# Altium schematic symbol library AO3401A.SchLib: 1 symbol
Pins are listed as number, name and electrical type; pins without a type are passive.

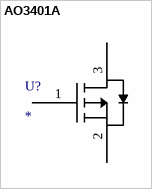
[diagram p0: symbol AO3401A]

## AO3401A
designator U?
No Description Available; Mfr_Name: Alpha and Omega Semiconductor; RefDes: RefDes; Type: Type
footprint SOT-23-3L_AOS
pins: 1 G, 2 S, 3 D